# Altium schematic symbol library USB-AM-S-X-X-TH.SchLib: 1 symbol
Pins are listed as number, name and electrical type; pins without a type are passive.

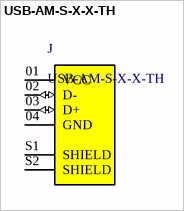
[diagram p0: symbol USB-AM-S-X-X-TH]

## USB-AM-S-X-X-TH
designator J
USB-A (USB TYPE-A) USB 2.0 Plug Connector 4 Position Through Hole, Right Angle
footprint SAMTEC_USB-AM-S-X-X-TH
pins: 01 VCC (power), 02 D- (io), 03 D+ (io), 04 GND (power), S1 SHIELD, S2 SHIELD